# Altium footprint library PCB_v01.PcbLib: 31 footprints (part 2 of 2)
Each footprint in its own frame and in the unit in brackets; x right, y up, seen from the top. Pads: shape width x height; smd on the part's side, far side on the other; paste and mask are expansions set on the pad; w line width, h text height; cw(c..) or ccw(c..) is an arc to the next point about the centre after c.
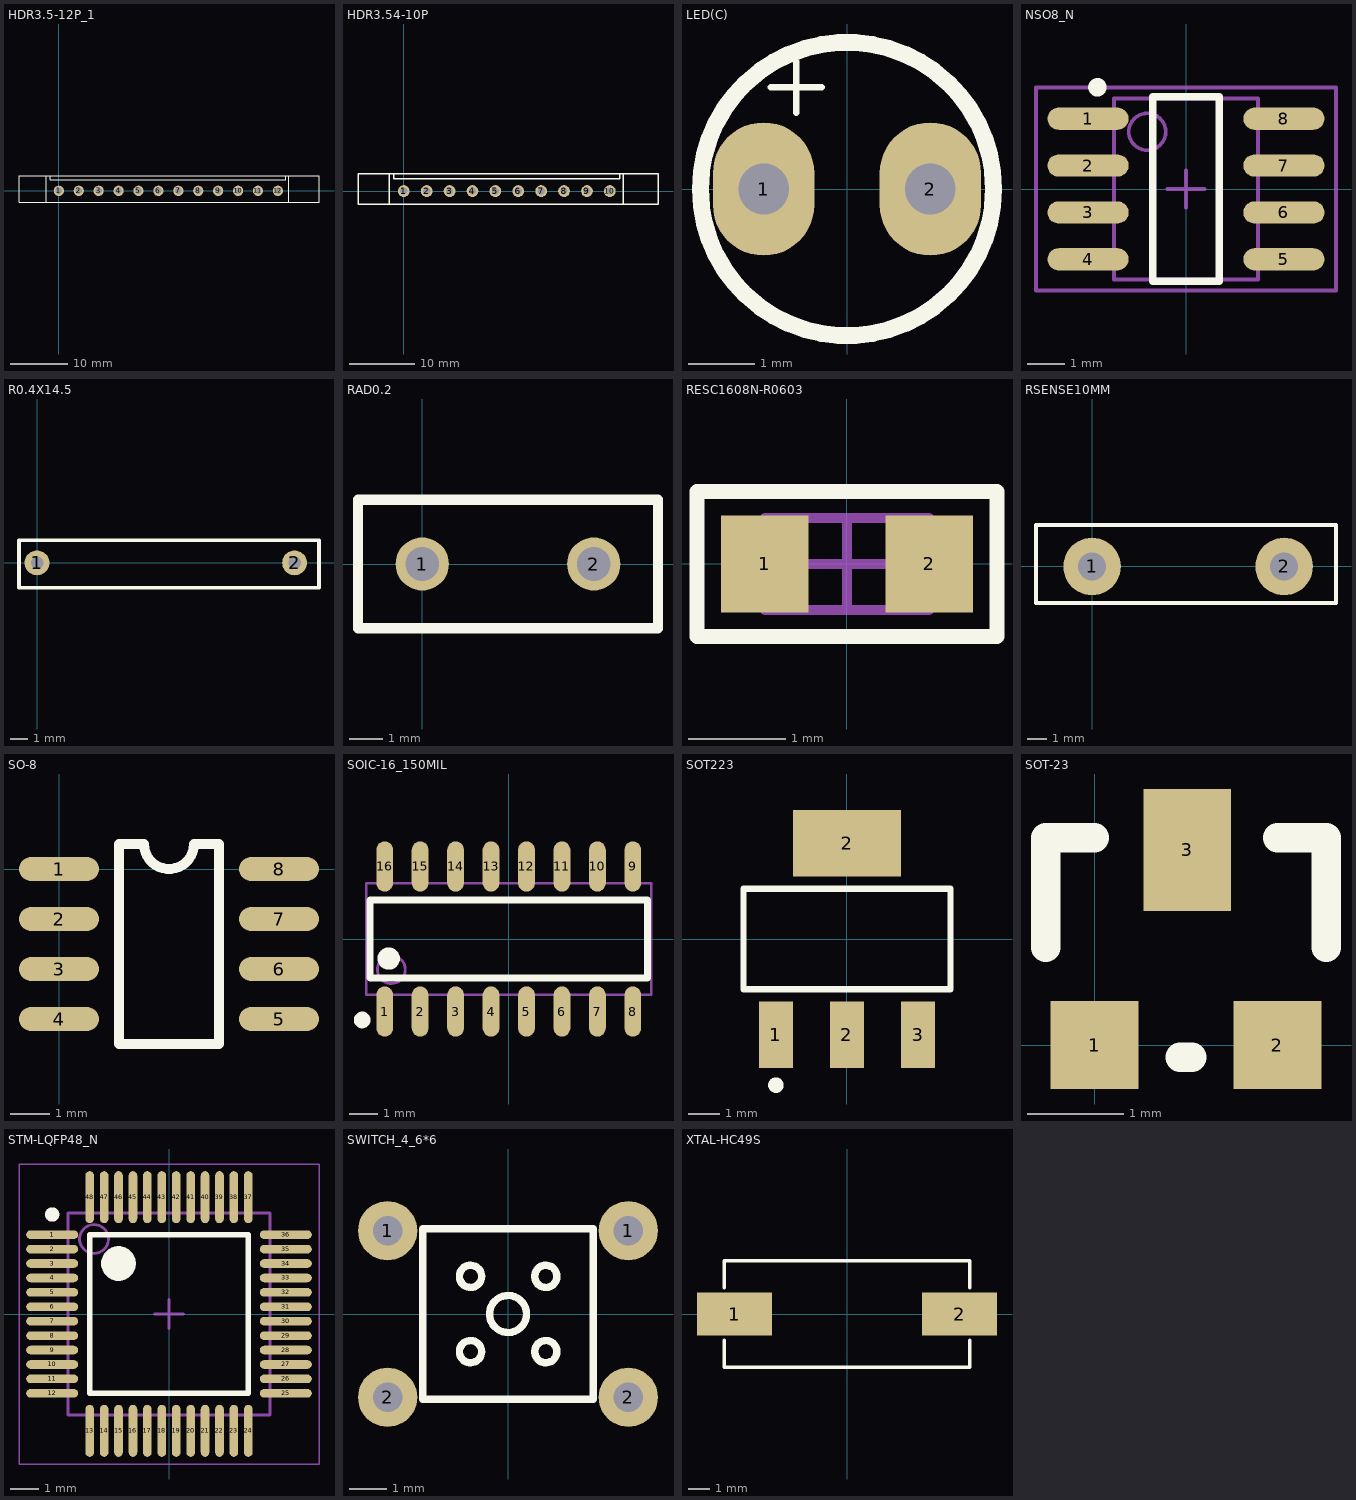
[diagram p1: the footprints below, top view; thin cyan lines are the x and y axes]

## HDR3.5-12P_1 [mm]
height 10
pads (12):
  round 1.8 hole 1.1: 1(0,0) 2(3.5,0) 3(7,0) 4(10.5,0) 5(14,0) 6(17.5,0) 7(21,0) 8(24.5,0) 9(28,0) 10(31.5,0) 11(35,0) 12(38.5,0)
Top Overlay:
  lines w0.2: -7,-2.032 -7,2.667 ; -6.985,-2.032 45.72,-2.032 45.72,2.667 -6.985,2.667 ; -2.185,-2.006 -2.185,2.667 ; -1.524,2.667 -1.524,1.905 39.878,1.905 39.878,2.667 ; 40.386,2.641 40.386,-2.032 40.386,2.667

## HDR3.54-10P [mm]
height 10
pads (10):
  round 1.8 hole 1.1: 1(0,0) 2(3.5,0) 3(7,0) 4(10.5,0) 5(14,0) 6(17.5,0) 7(21,0) 8(24.5,0) 9(28,0) 10(31.5,0)
Top Overlay:
  lines w0.2: -7,-2.032 -7,2.667 ; -6.985,-2.032 38.862,-2.032 38.862,2.667 -6.985,2.667 ; -2.185,-2.006 -2.185,2.667 ; -1.524,2.667 -1.524,1.905 33.02,1.905 33.02,2.667 ; 33.528,-2.032 33.528,2.641

## LED(С) [mm]
pads (2):
  oval 1.524x2 hole 0.762: 1(-1.25,0) 2(1.25,0)
Top Overlay:
  circle w0.254: c0,0 r2.2
  lines w0.1: -1.143,1.524 -0.381,1.524 ; -0.762,1.143 -0.762,1.905

## NSO8_N [mm] "SOIC-max660"
height 1.75
pads (8):
  oval 2.2x0.6 smd: 1(-2.654,1.905) 2(-2.654,0.635) 3(-2.654,-0.635) 4(-2.654,-1.905) 5(2.654,-1.905) 6(2.654,-0.635) 7(2.654,0.635) 8(2.654,1.905)
Top Overlay:
  circle w0.25: c-2.4,2.755 r0.125
  lines w0.2: -0.9,-2.5 0.9,-2.5 0.9,2.5 -0.9,2.5 -0.9,-2.5
Mechanical 13:
  circle w0.1: c-1.05,1.55 r0.5
  lines w0.1: -1.95,-2.45 1.95,-2.45 1.95,2.45 -1.95,2.45 -1.95,-2.45
Mechanical 15:
  lines w0.1: -0.5,0 0.5,0 ; 0,-0.5 0,0.5 ; -4.064,-2.75 4.064,-2.75 4.064,2.75 -4.064,2.75 -4.064,-2.75
3D body: height 1.75, standoff 0, extent -1.95,-2.45 1.95,2.45

## R0.4X14.5 [mm]
pads (2):
  round 1.4 hole 0.7: 1(0,0) 2(14.5,0)
Top Overlay:
  lines w0.2: -1.016,-1.397 15.875,-1.397 15.875,1.27 -1.016,1.27 -1.016,-1.397

## RAD0.2 [mil]
pads (2):
  round 62 hole 39.37: 1(0,0) 2(200,0)
Top Overlay:
  lines w12: -75,-75 275,-75 275,75 -75,75 -75,-75

## RESC1608N-R0603 [mm]
pads (2):
  rect 0.9x1 smd mask+0.102: 1(-0.85,0) 2(0.85,0)
Top Overlay:
  lines w0.152: -1.55,-0.75 1.55,-0.75 1.55,0.75 -1.55,0.75 -1.55,-0.75
Mechanical 7:
  lines w0.1: -0.85,-0.475 0.85,-0.475 0.85,0.475 -0.85,0.475 -0.85,-0.475
Mechanical 12:
  lines w0.1: -0.475,0 0.475,0 ; 0,-0.475 0,0.475
3D body: height 0.6, standoff 0, extent -0.85,-0.475 0.85,0.475

## RSENSE10MM [mm]
pads (2):
  round 3 hole 1.45: 1(0,0) 2(10,0)
Top Overlay:
  lines w0.2: -2.921,-1.905 -2.921,2.159 12.7,2.159 12.7,-1.905 -2.921,-1.905

## SO-8 [mil]
pads (8):
  oval 80x24 smd: 1(0,0) 2(0,-50) 3(0,-100) 4(0,-150) 5(220,-150) 6(220,-100) 7(220,-50) 8(220,0)
Top Overlay:
  lines w10: 60,-175 60,25 85,25 ccw(c110,25) 135,25 160,25 160,-175 60,-175

## SOIC-16_150MIL [mm]
pads (16):
  oval 0.6x1.8 smd: 1(-4.445,-2.6) 2(-3.175,-2.6) 3(-1.905,-2.6) 4(-0.635,-2.6) 5(0.635,-2.6) 6(1.905,-2.6) 7(3.175,-2.6) 8(4.445,-2.6) 9(4.445,2.6) 10(3.175,2.6) 11(1.905,2.6) 12(0.635,2.6) 13(-0.635,2.6) 14(-1.905,2.6) 15(-3.175,2.6) 16(-4.445,2.6)
Top Overlay:
  circle w0.3: c-5.25,-2.9 r0.15
  circle w0.4: c-4.3,-0.7 r0.2
  lines w0.254: -4.975,-1.4 4.975,-1.4 4.975,1.4 -4.975,1.4 -4.975,-1.4
Mechanical 13:
  circle w0.1: c-4.205,-1.095 r0.5
  lines w0.1: -5.105,-1.995 5.105,-1.995 5.105,1.995 -5.105,1.995 -5.105,-1.995

## SOT223 [mm]
pads (4):
  rect 1.1x2.15 smd: 1(-2.3,-3.1) 2(0,-3.1) 3(2.3,-3.1)
  rect 3.5x2.15 smd: 2(0,3.1)
Top Overlay:
  circle w0.25: c-2.3,-4.725 r0.125
  lines w0.2: -3.35,-1.625 3.35,-1.625 3.35,1.625 -3.35,1.625 -3.35,-1.625

## SOT-23 [mil]
pads (3):
  rect 36x36 smd: 1(0,0) 2(75,0)
  rect 36x50 smd: 3(38,80)
Top Overlay:
  lines w12: -20,40 -20,85 0,85 ; 35,-5 40,-5 ; 75,85 95,85 95,40

## STM-LQFP48_N [mm] "QFP, 48-Leads, Body 7x7mm, Pitch 0.5mm, IPC Medium Density"
height 1.6
pads (48):
  oval 1.8x0.3 smd: 1(-4.05,2.75) 2(-4.05,2.25) 3(-4.05,1.75) 4(-4.05,1.25) 5(-4.05,0.75) 6(-4.05,0.25) 7(-4.05,-0.25) 8(-4.05,-0.75) 9(-4.05,-1.25) 10(-4.05,-1.75) 11(-4.05,-2.25) 12(-4.05,-2.75) 25(4.05,-2.75) 26(4.05,-2.25) 27(4.05,-1.75) 28(4.05,-1.25) 29(4.05,-0.75) 30(4.05,-0.25) 31(4.05,0.25) 32(4.05,0.75) 33(4.05,1.25) 34(4.05,1.75) 35(4.05,2.25) 36(4.05,2.75)
  oval 0.3x1.8 smd: 13(-2.75,-4.05) 14(-2.25,-4.05) 15(-1.75,-4.05) 16(-1.25,-4.05) 17(-0.75,-4.05) 18(-0.25,-4.05) 19(0.25,-4.05) 20(0.75,-4.05) 21(1.25,-4.05) 22(1.75,-4.05) 23(2.25,-4.05) 24(2.75,-4.05) 37(2.75,4.05) 38(2.25,4.05) 39(1.75,4.05) 40(1.25,4.05) 41(0.75,4.05) 42(0.25,4.05) 43(-0.25,4.05) 44(-0.75,4.05) 45(-1.25,4.05) 46(-1.75,4.05) 47(-2.25,4.05) 48(-2.75,4.05)
Top Overlay:
  circle w0.25: c-4.05,3.45 r0.125
  circle w0.6: c-1.75,1.75 r0.3
  lines w0.2: -2.75,-2.75 -2.75,2.75 2.75,2.75 2.75,-2.75 -2.75,-2.75
Mechanical 13:
  circle w0.1: c-2.6,2.6 r0.5
  lines w0.1: -3.5,-3.5 -3.5,3.5 3.5,3.5 3.5,-3.5 -3.5,-3.5
Mechanical 15:
  lines w0.05: -5.2,-5.2 -5.2,5.2 5.2,5.2 5.2,-5.2 -5.2,-5.2
  lines w0.1: -0.5,0 0.5,0 ; 0,-0.5 0,0.5
3D body: height 1.6, standoff 0.05, extent -3.5,-3.5 3.5,3.5

## SWITCH_4_6*6 [mm]
pads (4):
  round 1.6 hole 0.8: 1(-3.25,2.25) 1(3.25,2.25) 2(-3.25,-2.25) 2(3.25,-2.25)
Top Overlay:
  circle w0.2: c1.021,-1.016 r0.3
  circle w0.2: c-1.011,-1.016 r0.3
  circle w0.2: c1.021,1.016 r0.3
  circle w0.2: c-1.011,1.016 r0.3
  circle w0.2: c0,0 r0.5
  lines w0.2: -2.3,-2.3 2.3,-2.3 2.3,2.3 -2.3,2.3 -2.3,-2.3
3D body: height 4.9, standoff -3.59, extent -3.989,-3.003 3.989,2.997

## XTAL-HC49S [mil]
pads (2):
  rect 138x79 smd: 1(-207,0) 2(207,0)
Top Overlay:
  lines w5.91: -226,-48 -226,-98 226,-98 226,-48 ; -226,48 -226,98 226,98 226,48
3D body: height 158.08, standoff 0.6, extent -253.93,-98.42 253.94,98.43